# Altium schematic symbol library E22-900M30S.SchLib: 1 symbol
Pins are listed as number, name and electrical type; pins without a type are passive.

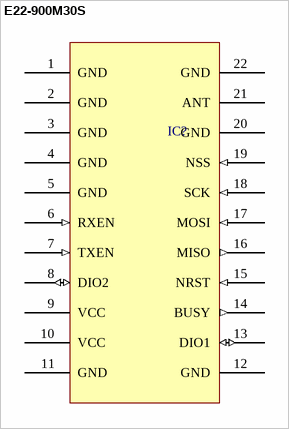
[diagram p0: symbol E22-900M30S]

## E22-900M30S
designator IC?
The E22-900M30S is based on the SX1262, a new generation of / LoRaTM RF chip manufactured by Semtech, USA. It is an ultra-small / and self-developed 868MHz、915MHz SMD LoRaTM wireless module.; Datasheet: https://www.ebyte.com/en/downpdf.aspx?id=453
footprint E22-900M30S (The E22-900M30S is based on the SX1262, a new generation of  LoRaTM RF chip manufactured by Semtech, USA. It is an ultra-small  and self-developed 868MHz?915MHz SMD LoRaTM wireless module)
pins: 1 GND, 2 GND, 3 GND, 4 GND, 5 GND, 6 RXEN (in), 7 TXEN (in), 8 DIO2 (io), 9 VCC (power), 10 VCC (power), 11 GND, 12 GND, 13 DIO1 (io), 14 BUSY (out), 15 NRST (in), 16 MISO (out), 17 MOSI (in), 18 SCK (in), 19 NSS (in), 20 GND, 21 ANT, 22 GND